# Altium footprint library TSSOP-16-FE-BB.PcbLib: 1 footprints
Each footprint in its own frame and in the unit in brackets; x right, y up, seen from the top. Pads: shape width x height; smd on the part's side, far side on the other; paste and mask are expansions set on the pad; w line width, h text height; cw(c..) or ccw(c..) is an arc to the next point about the centre after c.
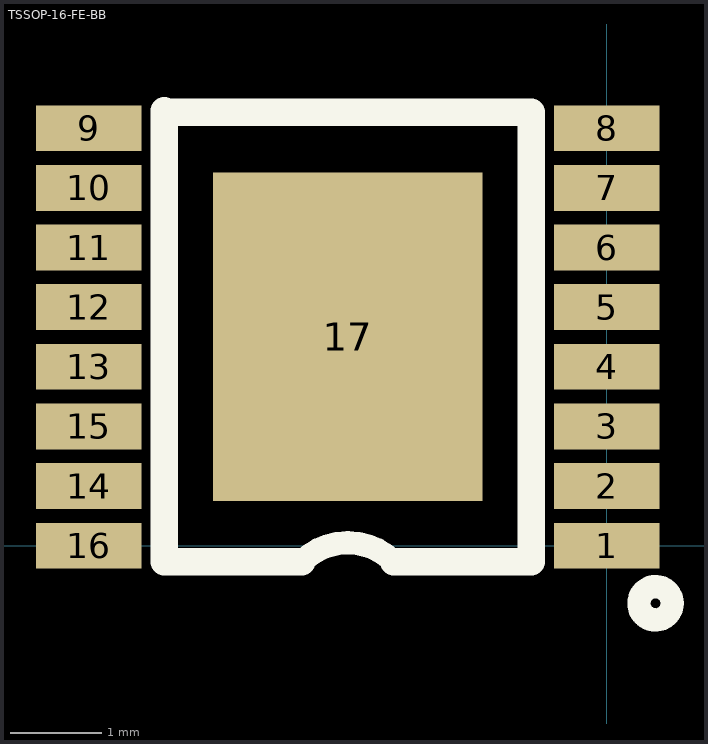
[diagram p0: the footprint, top view; thin cyan lines are the x and y axes]

## TSSOP-16-FE-BB [mm]
pads (17):
  rect 1.15x0.5 smd: 1(0,0) 2(0,0.65) 3(0,1.3) 4(0,1.95) 5(0,2.6) 6(0,3.25) 7(0,3.9) 8(0,4.55) 9(-5.65,4.55) 10(-5.65,3.9) 11(-5.65,3.25) 12(-5.65,2.6) 13(-5.65,1.95) 14(-5.65,0.65) 15(-5.65,1.3) 16(-5.65,0)
  rect 2.94x3.58 smd: 17(-2.825,2.276)
TopOverlay:
  circle w0.254: c0.53,-0.628 r0.181
  lines w0.254: -3.325,-0.175 cw(c-2.825,-0.675) -2.325,-0.175
  lines w0.3: -4.826,4.725 -0.824,4.725 -0.824,-0.175 -2.325,-0.175 ; -4.826,4.74 -4.826,-0.175 -3.325,-0.175